# Altium integrated library Analog Devices RF IF Switches.IntLib: 52 symbols (part 1 of 3)
Pins are listed as number, name and electrical type; pins without a type are passive.

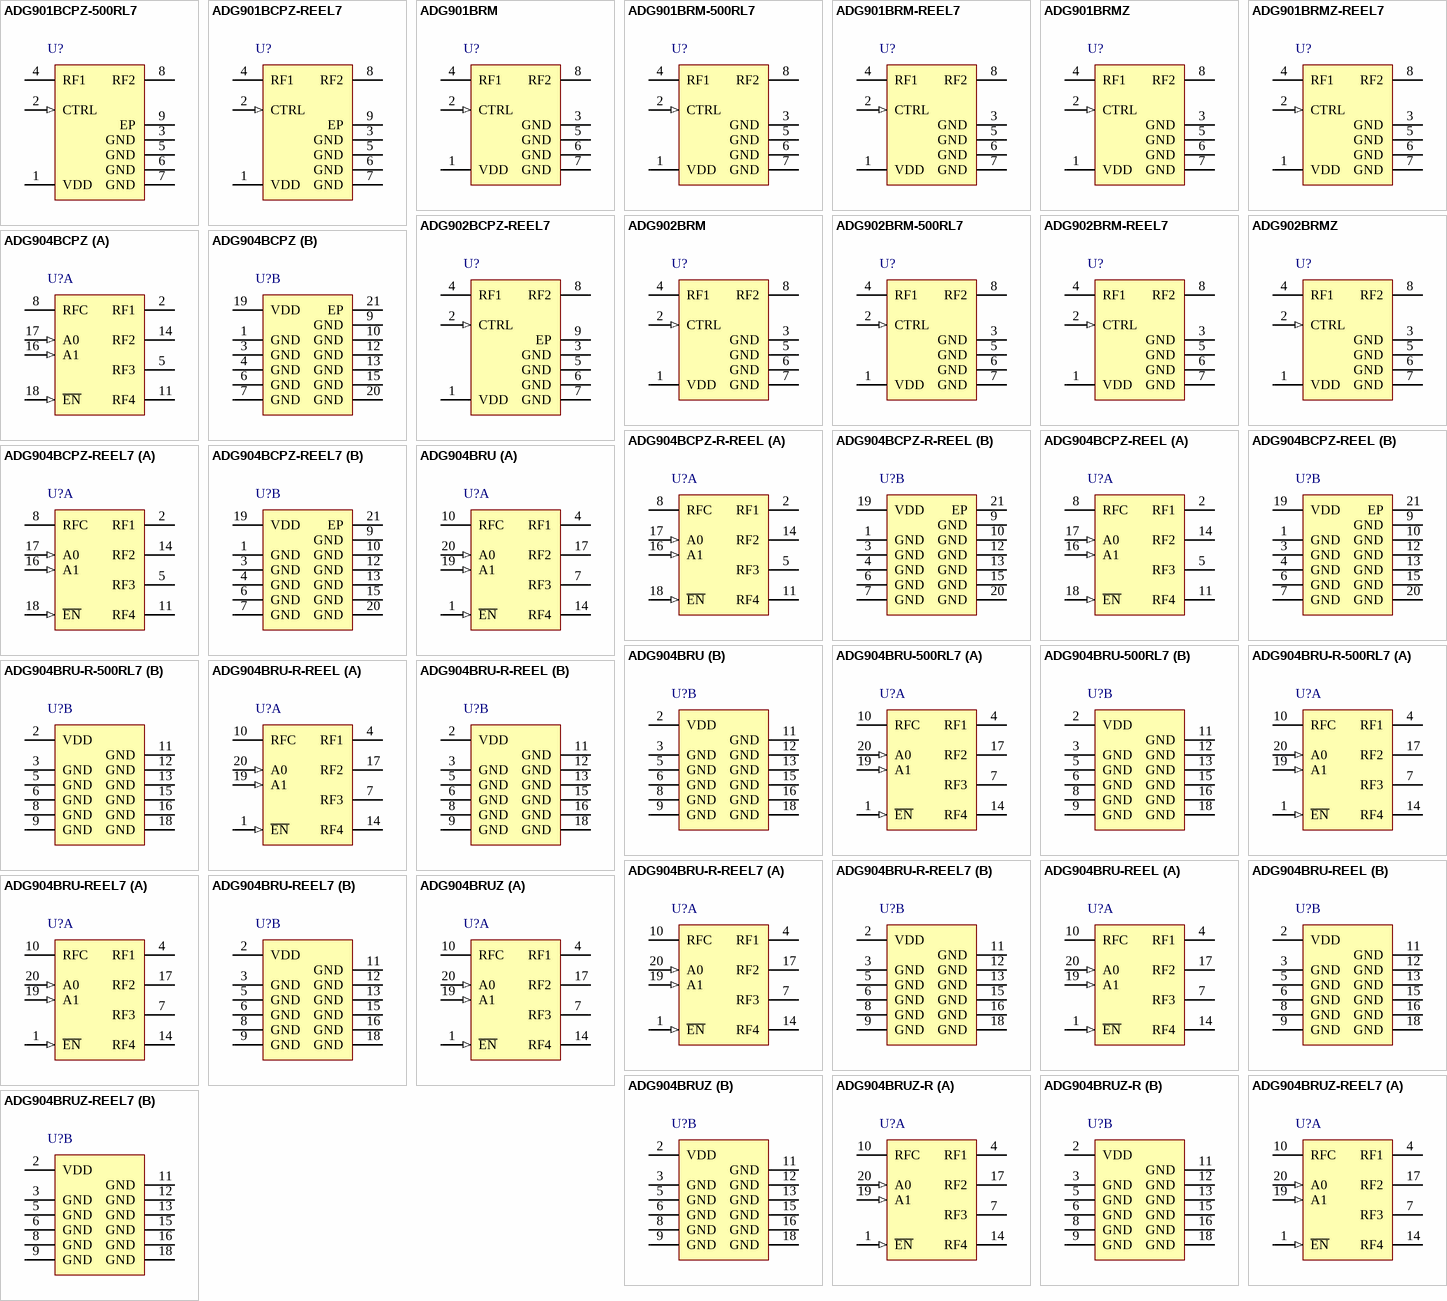
[diagram p0: symbols ADG901BCPZ-500RL7 to ADG904BRUZ-REEL7]

## ADG901BCPZ-500RL7
designator U?
RF Switch, Wideband, 40 dB Isolation at 1 GHz, CMOS 1.65 V to 2.75 V, SPST Switches, CP-8-2, Pb-Free, 500 Reel; Configuration: SPST/NO; # Sw Functions: 1; Supply Voltage: Single (+1.65V to +2.75V); Insertion Loss (dB): 800mdB; Bandwidth: 4.5GHz; P-1dB (dBm): 17; Off Isolation: 37dB; Off Isolation Test Freq: 1G; DatasheetVersion: RevB; PackageVersion: 061507-B; PackageReference: CP-8-2; PackageDescription: 8-Lead Lead Frame Chip Scale Package [LFCSP_VD]; ComponentLink1Description: Manufacturer URL; ComponentLink1URL: www.analog.com; ComponentLink2Description: Datasheet; ComponentLink2URL: http://www.analog.com/static/imported-files/data_sheets/ADG901_902.pdf; ComponentLink3Description: Package Specification; ComponentLink3URL: http://www.analog.com/static/imported-files/packages/56953322593982CP_8_2.pdf
footprint ADI-CP-8-2_N (SON, 8-Leads, Body 3x3mm, Pitch 0.5mm, Thermal Pad 1.75x1.45mm, IPC Medium Density)
footprint ADI-CP-8-2_L (SON, 8-Leads, Body 3x3mm, Pitch 0.5mm, Thermal Pad 1.75x1.45mm, IPC High Density)
footprint ADI-CP-8-2_M (SON, 8-Leads, Body 3x3mm, Pitch 0.5mm, Thermal Pad 1.75x1.45mm, IPC Low Density)
pins: 1 VDD (power) "Power Supply Input. These parts can be operated from 1.65 V to 2.75 V; VDD should be decoupled to GND.", 2 CTRL (in) "CMOS or LVTTL Logic Level.", 3 GND (power) "Ground Reference Point for All Circuitry on the Part.", 4 RF1 "RF1 Port.", 5 GND (power) "Ground Reference Point for All Circuitry on the Part.", 6 GND (power) "Ground Reference Point for All Circuitry on the Part.", 7 GND (power) "Ground Reference Point for All Circuitry on the Part.", 8 RF2 "RF2 Port.", 9 EP (power) "Exposed Pad."

## ADG901BCPZ-REEL7
designator U?
RF Switch, Wideband, 40 dB Isolation at 1 GHz, CMOS 1.65 V to 2.75 V, SPST Switches, CP-8-2, Pb-Free, 1500 Reel; Configuration: SPST/NO; # Sw Functions: 1; Supply Voltage: Single (+1.65V to +2.75V); Insertion Loss (dB): 800mdB; Bandwidth: 4.5GHz; P-1dB (dBm): 17; Off Isolation: 37dB; Off Isolation Test Freq: 1G; DatasheetVersion: RevB; PackageVersion: 061507-B; PackageReference: CP-8-2; PackageDescription: 8-Lead Lead Frame Chip Scale Package [LFCSP_VD]; ComponentLink1Description: Manufacturer URL; ComponentLink1URL: www.analog.com; ComponentLink2Description: Datasheet; ComponentLink2URL: http://www.analog.com/static/imported-files/data_sheets/ADG901_902.pdf; ComponentLink3Description: Package Specification; ComponentLink3URL: http://www.analog.com/static/imported-files/packages/56953322593982CP_8_2.pdf
footprint ADI-CP-8-2_N (SON, 8-Leads, Body 3x3mm, Pitch 0.5mm, Thermal Pad 1.75x1.45mm, IPC Medium Density)
footprint ADI-CP-8-2_L (SON, 8-Leads, Body 3x3mm, Pitch 0.5mm, Thermal Pad 1.75x1.45mm, IPC High Density)
footprint ADI-CP-8-2_M (SON, 8-Leads, Body 3x3mm, Pitch 0.5mm, Thermal Pad 1.75x1.45mm, IPC Low Density)
pins: 1 VDD (power) "Power Supply Input. These parts can be operated from 1.65 V to 2.75 V; VDD should be decoupled to GND.", 2 CTRL (in) "CMOS or LVTTL Logic Level.", 3 GND (power) "Ground Reference Point for All Circuitry on the Part.", 4 RF1 "RF1 Port.", 5 GND (power) "Ground Reference Point for All Circuitry on the Part.", 6 GND (power) "Ground Reference Point for All Circuitry on the Part.", 7 GND (power) "Ground Reference Point for All Circuitry on the Part.", 8 RF2 "RF2 Port.", 9 EP (power) "Exposed Pad."

## ADG901BRM
designator U?
RF Switch, Wideband, 40 dB Isolation at 1 GHz, CMOS 1.65 V to 2.75 V, SPST Switches, RM-8, 50 Tube; Configuration: SPST/NO; # Sw Functions: 1; Supply Voltage: Single (+1.65V to +2.75V); Insertion Loss (dB): 800mdB; Bandwidth: 4.5GHz; P-1dB (dBm): 17; Off Isolation: 37dB; Off Isolation Test Freq: 1G; DatasheetVersion: RevB; PackageVersion: Aug-2005; PackageReference: RM-8; PackageDescription: 8-Lead Mini Small Outline Package [MSOP]; Code_JEDEC: MO-187-AA; ComponentLink1Description: Manufacturer URL; ComponentLink1URL: www.analog.com; ComponentLink2Description: Datasheet; ComponentLink2URL: http://www.analog.com/static/imported-files/data_sheets/ADG901_902.pdf; ComponentLink3Description: Package Specification; ComponentLink3URL: http://www.analog.com/static/imported-files/packages/PKG_PDF/MSOP%28RM%29/RM_8.pdf
footprint ADI-RM-8_N (TSOP, 8-Leads, Body 3x3mm, Pitch 0.65mm, IPC Medium Density)
footprint ADI-RM-8_L (TSOP, 8-Leads, Body 3x3mm, Pitch 0.65mm, IPC High Density)
footprint ADI-RM-8_M (TSOP, 8-Leads, Body 3x3mm, Pitch 0.65mm, IPC Low Density)
pins: 1 VDD (power) "Power Supply Input. These parts can be operated from 1.65 V to 2.75 V; VDD should be decoupled to GND.", 2 CTRL (in) "CMOS or LVTTL Logic Level. CTRL input should not exceed VDD.", 3 GND (power) "Ground Reference Point for All Circuitry on the Part.", 4 RF1 "RF1 Port.", 5 GND (power) "Ground Reference Point for All Circuitry on the Part.", 6 GND (power) "Ground Reference Point for All Circuitry on the Part.", 7 GND (power) "Ground Reference Point for All Circuitry on the Part.", 8 RF2 "RF2 Port."

## ADG901BRM-500RL7
designator U?
RF Switch, Wideband, 40 dB Isolation at 1 GHz, CMOS 1.65 V to 2.75 V, SPST Switches, RM-8, 500 Reel; Configuration: SPST/NO; # Sw Functions: 1; Supply Voltage: Single (+1.65V to +2.75V); Insertion Loss (dB): 800mdB; Bandwidth: 4.5GHz; P-1dB (dBm): 17; Off Isolation: 37dB; Off Isolation Test Freq: 1G; DatasheetVersion: RevB; PackageVersion: Aug-2005; PackageReference: RM-8; PackageDescription: 8-Lead Mini Small Outline Package [MSOP]; Code_JEDEC: MO-187-AA; ComponentLink1Description: Manufacturer URL; ComponentLink1URL: www.analog.com; ComponentLink2Description: Datasheet; ComponentLink2URL: http://www.analog.com/static/imported-files/data_sheets/ADG901_902.pdf; ComponentLink3Description: Package Specification; ComponentLink3URL: http://www.analog.com/static/imported-files/packages/PKG_PDF/MSOP%28RM%29/RM_8.pdf
footprint ADI-RM-8_N (TSOP, 8-Leads, Body 3x3mm, Pitch 0.65mm, IPC Medium Density)
footprint ADI-RM-8_L (TSOP, 8-Leads, Body 3x3mm, Pitch 0.65mm, IPC High Density)
footprint ADI-RM-8_M (TSOP, 8-Leads, Body 3x3mm, Pitch 0.65mm, IPC Low Density)
pins: 1 VDD (power) "Power Supply Input. These parts can be operated from 1.65 V to 2.75 V; VDD should be decoupled to GND.", 2 CTRL (in) "CMOS or LVTTL Logic Level. CTRL input should not exceed VDD.", 3 GND (power) "Ground Reference Point for All Circuitry on the Part.", 4 RF1 "RF1 Port.", 5 GND (power) "Ground Reference Point for All Circuitry on the Part.", 6 GND (power) "Ground Reference Point for All Circuitry on the Part.", 7 GND (power) "Ground Reference Point for All Circuitry on the Part.", 8 RF2 "RF2 Port."

## ADG901BRM-REEL7
designator U?
RF Switch, Wideband, 40 dB Isolation at 1 GHz, CMOS 1.65 V to 2.75 V, SPST Switches, RM-8, 1000 Reel; Configuration: SPST/NO; # Sw Functions: 1; Supply Voltage: Single (+1.65V to +2.75V); Insertion Loss (dB): 800mdB; Bandwidth: 4.5GHz; P-1dB (dBm): 17; Off Isolation: 37dB; Off Isolation Test Freq: 1G; DatasheetVersion: RevB; PackageVersion: Aug-2005; PackageReference: RM-8; PackageDescription: 8-Lead Mini Small Outline Package [MSOP]; Code_JEDEC: MO-187-AA; ComponentLink1Description: Manufacturer URL; ComponentLink1URL: www.analog.com; ComponentLink2Description: Datasheet; ComponentLink2URL: http://www.analog.com/static/imported-files/data_sheets/ADG901_902.pdf; ComponentLink3Description: Package Specification; ComponentLink3URL: http://www.analog.com/static/imported-files/packages/PKG_PDF/MSOP%28RM%29/RM_8.pdf
footprint ADI-RM-8_N (TSOP, 8-Leads, Body 3x3mm, Pitch 0.65mm, IPC Medium Density)
footprint ADI-RM-8_L (TSOP, 8-Leads, Body 3x3mm, Pitch 0.65mm, IPC High Density)
footprint ADI-RM-8_M (TSOP, 8-Leads, Body 3x3mm, Pitch 0.65mm, IPC Low Density)
pins: 1 VDD (power) "Power Supply Input. These parts can be operated from 1.65 V to 2.75 V; VDD should be decoupled to GND.", 2 CTRL (in) "CMOS or LVTTL Logic Level. CTRL input should not exceed VDD.", 3 GND (power) "Ground Reference Point for All Circuitry on the Part.", 4 RF1 "RF1 Port.", 5 GND (power) "Ground Reference Point for All Circuitry on the Part.", 6 GND (power) "Ground Reference Point for All Circuitry on the Part.", 7 GND (power) "Ground Reference Point for All Circuitry on the Part.", 8 RF2 "RF2 Port."

## ADG901BRMZ
designator U?
RF Switch, Wideband, 40 dB Isolation at 1 GHz, CMOS 1.65 V to 2.75 V, SPST Switches, RM-8, Pb-Free, 50 Tube; Configuration: SPST/NO; # Sw Functions: 1; Supply Voltage: Single (+1.65V to +2.75V); Insertion Loss (dB): 800mdB; Bandwidth: 4.5GHz; P-1dB (dBm): 17; Off Isolation: 37dB; Off Isolation Test Freq: 1G; DatasheetVersion: RevB; PackageVersion: Aug-2005; PackageReference: RM-8; PackageDescription: 8-Lead Mini Small Outline Package [MSOP]; Code_JEDEC: MO-187-AA; ComponentLink1Description: Manufacturer URL; ComponentLink1URL: www.analog.com; ComponentLink2Description: Datasheet; ComponentLink2URL: http://www.analog.com/static/imported-files/data_sheets/ADG901_902.pdf; ComponentLink3Description: Package Specification; ComponentLink3URL: http://www.analog.com/static/imported-files/packages/PKG_PDF/MSOP%28RM%29/RM_8.pdf
footprint ADI-RM-8_N (TSOP, 8-Leads, Body 3x3mm, Pitch 0.65mm, IPC Medium Density)
footprint ADI-RM-8_L (TSOP, 8-Leads, Body 3x3mm, Pitch 0.65mm, IPC High Density)
footprint ADI-RM-8_M (TSOP, 8-Leads, Body 3x3mm, Pitch 0.65mm, IPC Low Density)
pins: 1 VDD (power) "Power Supply Input. These parts can be operated from 1.65 V to 2.75 V; VDD should be decoupled to GND.", 2 CTRL (in) "CMOS or LVTTL Logic Level. CTRL input should not exceed VDD.", 3 GND (power) "Ground Reference Point for All Circuitry on the Part.", 4 RF1 "RF1 Port.", 5 GND (power) "Ground Reference Point for All Circuitry on the Part.", 6 GND (power) "Ground Reference Point for All Circuitry on the Part.", 7 GND (power) "Ground Reference Point for All Circuitry on the Part.", 8 RF2 "RF2 Port."

## ADG901BRMZ-REEL7
designator U?
RF Switch, Wideband, 40 dB Isolation at 1 GHz, CMOS 1.65 V to 2.75 V, SPST Switches, RM-8, Pb-Free, 1000 Reel; Configuration: SPST/NO; # Sw Functions: 1; Supply Voltage: Single (+1.65V to +2.75V); Insertion Loss (dB): 800mdB; Bandwidth: 4.5GHz; P-1dB (dBm): 17; Off Isolation: 37dB; Off Isolation Test Freq: 1G; DatasheetVersion: RevB; PackageVersion: Aug-2005; PackageReference: RM-8; PackageDescription: 8-Lead Mini Small Outline Package [MSOP]; Code_JEDEC: MO-187-AA; ComponentLink1Description: Manufacturer URL; ComponentLink1URL: www.analog.com; ComponentLink2Description: Datasheet; ComponentLink2URL: http://www.analog.com/static/imported-files/data_sheets/ADG901_902.pdf; ComponentLink3Description: Package Specification; ComponentLink3URL: http://www.analog.com/static/imported-files/packages/PKG_PDF/MSOP%28RM%29/RM_8.pdf
footprint ADI-RM-8_N (TSOP, 8-Leads, Body 3x3mm, Pitch 0.65mm, IPC Medium Density)
footprint ADI-RM-8_L (TSOP, 8-Leads, Body 3x3mm, Pitch 0.65mm, IPC High Density)
footprint ADI-RM-8_M (TSOP, 8-Leads, Body 3x3mm, Pitch 0.65mm, IPC Low Density)
pins: 1 VDD (power) "Power Supply Input. These parts can be operated from 1.65 V to 2.75 V; VDD should be decoupled to GND.", 2 CTRL (in) "CMOS or LVTTL Logic Level. CTRL input should not exceed VDD.", 3 GND (power) "Ground Reference Point for All Circuitry on the Part.", 4 RF1 "RF1 Port.", 5 GND (power) "Ground Reference Point for All Circuitry on the Part.", 6 GND (power) "Ground Reference Point for All Circuitry on the Part.", 7 GND (power) "Ground Reference Point for All Circuitry on the Part.", 8 RF2 "RF2 Port."

## ADG902BCPZ-REEL7
designator U?
RF Switch, Wideband, 40 dB Isolation at 1 GHz, CMOS 1.65 V to 2.75 V, SPST Switches, CP-8-2, Pb-Free, 1500 Reel; Configuration: SPST/NO; # Sw Functions: 1; Supply Voltage: Single (+1.65V to +2.75V); Insertion Loss (dB): 800mdB; Bandwidth: 4.5GHz; P-1dB (dBm): 17; Off Isolation: 37dB; Off Isolation Test Freq: 1G; DatasheetVersion: RevB; PackageVersion: 061507-B; PackageReference: CP-8-2; PackageDescription: 8-Lead Lead Frame Chip Scale Package [LFCSP_VD]; ComponentLink1Description: Manufacturer URL; ComponentLink1URL: www.analog.com; ComponentLink2Description: Datasheet; ComponentLink2URL: http://www.analog.com/static/imported-files/data_sheets/ADG901_902.pdf; ComponentLink3Description: Package Specification; ComponentLink3URL: http://www.analog.com/static/imported-files/packages/56953322593982CP_8_2.pdf
footprint ADI-CP-8-2_N (SON, 8-Leads, Body 3x3mm, Pitch 0.5mm, Thermal Pad 1.75x1.45mm, IPC Medium Density)
footprint ADI-CP-8-2_L (SON, 8-Leads, Body 3x3mm, Pitch 0.5mm, Thermal Pad 1.75x1.45mm, IPC High Density)
footprint ADI-CP-8-2_M (SON, 8-Leads, Body 3x3mm, Pitch 0.5mm, Thermal Pad 1.75x1.45mm, IPC Low Density)
pins: 1 VDD (power) "Power Supply Input. These parts can be operated from 1.65 V to 2.75 V; VDD should be decoupled to GND.", 2 CTRL (in) "CMOS or LVTTL Logic Level. CTRL input should not exceed VDD.", 3 GND (power) "Ground Reference Point for All Circuitry on the Part.", 4 RF1 "RF1 Port.", 5 GND (power) "Ground Reference Point for All Circuitry on the Part.", 6 GND (power) "Ground Reference Point for All Circuitry on the Part.", 7 GND (power) "Ground Reference Point for All Circuitry on the Part.", 8 RF2 "RF2 Port.", 9 EP (power) "Exposed Pad."

## ADG902BRM
designator U?
RF Switch, Wideband, 40 dB Isolation at 1 GHz, CMOS 1.65 V to 2.75 V, SPST Switches, RM-8, 50 Tube; Configuration: SPST/NO; # Sw Functions: 1; Supply Voltage: Single (+1.65V to +2.75V); Insertion Loss (dB): 800mdB; Bandwidth: 4.5GHz; P-1dB (dBm): 17; Off Isolation: 37dB; Off Isolation Test Freq: 1G; DatasheetVersion: RevB; PackageVersion: Aug-2005; PackageReference: RM-8; PackageDescription: 8-Lead Mini Small Outline Package [MSOP]; Code_JEDEC: MO-187-AA; ComponentLink1Description: Manufacturer URL; ComponentLink1URL: www.analog.com; ComponentLink2Description: Datasheet; ComponentLink2URL: http://www.analog.com/static/imported-files/data_sheets/ADG901_902.pdf; ComponentLink3Description: Package Specification; ComponentLink3URL: http://www.analog.com/static/imported-files/packages/PKG_PDF/MSOP%28RM%29/RM_8.pdf
footprint ADI-RM-8_N (TSOP, 8-Leads, Body 3x3mm, Pitch 0.65mm, IPC Medium Density)
footprint ADI-RM-8_L (TSOP, 8-Leads, Body 3x3mm, Pitch 0.65mm, IPC High Density)
footprint ADI-RM-8_M (TSOP, 8-Leads, Body 3x3mm, Pitch 0.65mm, IPC Low Density)
pins: 1 VDD (power) "Power Supply Input. These parts can be operated from 1.65 V to 2.75 V; VDD should be decoupled to GND.", 2 CTRL (in) "CMOS or LVTTL Logic Level. CTRL input should not exceed VDD.", 3 GND (power) "Ground Reference Point for All Circuitry on the Part.", 4 RF1 "RF1 Port.", 5 GND (power) "Ground Reference Point for All Circuitry on the Part.", 6 GND (power) "Ground Reference Point for All Circuitry on the Part.", 7 GND (power) "Ground Reference Point for All Circuitry on the Part.", 8 RF2 "RF2 Port."

## ADG902BRM-500RL7
designator U?
RF Switch, Wideband, 40 dB Isolation at 1 GHz, CMOS 1.65 V to 2.75 V, SPST Switches, RM-8, 500 Reel; Configuration: SPST/NO; # Sw Functions: 1; Supply Voltage: Single (+1.65V to +2.75V); Insertion Loss (dB): 800mdB; Bandwidth: 4.5GHz; P-1dB (dBm): 17; Off Isolation: 37dB; Off Isolation Test Freq: 1G; DatasheetVersion: RevB; PackageVersion: Aug-2005; PackageReference: RM-8; PackageDescription: 8-Lead Mini Small Outline Package [MSOP]; Code_JEDEC: MO-187-AA; ComponentLink1Description: Manufacturer URL; ComponentLink1URL: www.analog.com; ComponentLink2Description: Datasheet; ComponentLink2URL: http://www.analog.com/static/imported-files/data_sheets/ADG901_902.pdf; ComponentLink3Description: Package Specification; ComponentLink3URL: http://www.analog.com/static/imported-files/packages/PKG_PDF/MSOP%28RM%29/RM_8.pdf
footprint ADI-RM-8_N (TSOP, 8-Leads, Body 3x3mm, Pitch 0.65mm, IPC Medium Density)
footprint ADI-RM-8_L (TSOP, 8-Leads, Body 3x3mm, Pitch 0.65mm, IPC High Density)
footprint ADI-RM-8_M (TSOP, 8-Leads, Body 3x3mm, Pitch 0.65mm, IPC Low Density)
pins: 1 VDD (power) "Power Supply Input. These parts can be operated from 1.65 V to 2.75 V; VDD should be decoupled to GND.", 2 CTRL (in) "CMOS or LVTTL Logic Level. CTRL input should not exceed VDD.", 3 GND (power) "Ground Reference Point for All Circuitry on the Part.", 4 RF1 "RF1 Port.", 5 GND (power) "Ground Reference Point for All Circuitry on the Part.", 6 GND (power) "Ground Reference Point for All Circuitry on the Part.", 7 GND (power) "Ground Reference Point for All Circuitry on the Part.", 8 RF2 "RF2 Port."

## ADG902BRM-REEL7
designator U?
RF Switch, Wideband, 40 dB Isolation at 1 GHz, CMOS 1.65 V to 2.75 V, SPST Switches, RM-8, 1000 Reel; Configuration: SPST/NO; # Sw Functions: 1; Supply Voltage: Single (+1.65V to +2.75V); Insertion Loss (dB): 800mdB; Bandwidth: 4.5GHz; P-1dB (dBm): 17; Off Isolation: 37dB; Off Isolation Test Freq: 1G; DatasheetVersion: RevB; PackageVersion: Aug-2005; PackageReference: RM-8; PackageDescription: 8-Lead Mini Small Outline Package [MSOP]; Code_JEDEC: MO-187-AA; ComponentLink1Description: Manufacturer URL; ComponentLink1URL: www.analog.com; ComponentLink2Description: Datasheet; ComponentLink2URL: http://www.analog.com/static/imported-files/data_sheets/ADG901_902.pdf; ComponentLink3Description: Package Specification; ComponentLink3URL: http://www.analog.com/static/imported-files/packages/PKG_PDF/MSOP%28RM%29/RM_8.pdf
footprint ADI-RM-8_N (TSOP, 8-Leads, Body 3x3mm, Pitch 0.65mm, IPC Medium Density)
footprint ADI-RM-8_L (TSOP, 8-Leads, Body 3x3mm, Pitch 0.65mm, IPC High Density)
footprint ADI-RM-8_M (TSOP, 8-Leads, Body 3x3mm, Pitch 0.65mm, IPC Low Density)
pins: 1 VDD (power) "Power Supply Input. These parts can be operated from 1.65 V to 2.75 V; VDD should be decoupled to GND.", 2 CTRL (in) "CMOS or LVTTL Logic Level. CTRL input should not exceed VDD.", 3 GND (power) "Ground Reference Point for All Circuitry on the Part.", 4 RF1 "RF1 Port.", 5 GND (power) "Ground Reference Point for All Circuitry on the Part.", 6 GND (power) "Ground Reference Point for All Circuitry on the Part.", 7 GND (power) "Ground Reference Point for All Circuitry on the Part.", 8 RF2 "RF2 Port."

## ADG902BRMZ
designator U?
RF Switch, Wideband, 40 dB Isolation at 1 GHz, CMOS 1.65 V to 2.75 V, SPST Switches, RM-8, Pb-Free, 50 Tube; Configuration: SPST/NO; # Sw Functions: 1; Supply Voltage: Single (+1.65V to +2.75V); Insertion Loss (dB): 800mdB; Bandwidth: 4.5GHz; P-1dB (dBm): 17; Off Isolation: 37dB; Off Isolation Test Freq: 1G; DatasheetVersion: RevB; PackageVersion: Aug-2005; PackageReference: RM-8; PackageDescription: 8-Lead Mini Small Outline Package [MSOP]; Code_JEDEC: MO-187-AA; ComponentLink1Description: Manufacturer URL; ComponentLink1URL: www.analog.com; ComponentLink2Description: Datasheet; ComponentLink2URL: http://www.analog.com/static/imported-files/data_sheets/ADG901_902.pdf; ComponentLink3Description: Package Specification; ComponentLink3URL: http://www.analog.com/static/imported-files/packages/PKG_PDF/MSOP%28RM%29/RM_8.pdf
footprint ADI-RM-8_N (TSOP, 8-Leads, Body 3x3mm, Pitch 0.65mm, IPC Medium Density)
footprint ADI-RM-8_L (TSOP, 8-Leads, Body 3x3mm, Pitch 0.65mm, IPC High Density)
footprint ADI-RM-8_M (TSOP, 8-Leads, Body 3x3mm, Pitch 0.65mm, IPC Low Density)
pins: 1 VDD (power) "Power Supply Input. These parts can be operated from 1.65 V to 2.75 V; VDD should be decoupled to GND.", 2 CTRL (in) "CMOS or LVTTL Logic Level. CTRL input should not exceed VDD.", 3 GND (power) "Ground Reference Point for All Circuitry on the Part.", 4 RF1 "RF1 Port.", 5 GND (power) "Ground Reference Point for All Circuitry on the Part.", 6 GND (power) "Ground Reference Point for All Circuitry on the Part.", 7 GND (power) "Ground Reference Point for All Circuitry on the Part.", 8 RF2 "RF2 Port."

## ADG904BCPZ
designator U?
RF Switch, Wideband 2.5 GHz, 37 dB Isolation at 1 GHz, CMOS 1.65 V to 2.75 V, 4:1 Mux/SP4T, CP-20-1, Pb-Free, 490 Tray; Configuration: 4; Supply Voltage: Single (+1.65V to +2.75V); Insertion Loss (dB): 400mdB; Bandwidth: 2.5GHz; P-1dB (dBm): 16; Off Isolation: 60dB; Off Isolation Test Freq: 100M; DatasheetVersion: RevB; PackageVersion: 012508-B; PackageReference: CP-20-1; PackageDescription: 20-Lead Lead Frame Chip Scale Package [LFCSP_VQ]; # Sw Functions: 4; Code_JEDEC: MO-220-VGGD-1; ComponentLink1Description: Manufacturer URL; ComponentLink1URL: www.analog.com; ComponentLink2Description: Datasheet; ComponentLink2URL: http://www.analog.com/static/imported-files/data_sheets/ADG904_904R.pdf; ComponentLink3Description: Package Specification; ComponentLink3URL: http://www.analog.com/static/imported-files/packages/PKG_PDF/LFCSP(CP)/CP_20_1.pdf
footprint ADI-CP-20-1_N (QFN, 20-Leads, Body 4x4mm, Pitch 0.5mm, Thermal Pad 2.2x2.2mm, IPC Medium Density)
footprint ADI-CP-20-1_L (QFN, 20-Leads, Body 4x4mm, Pitch 0.5mm, Thermal Pad 2.2x2.2mm, IPC High Density)
footprint ADI-CP-20-1_M (QFN, 20-Leads, Body 4x4mm, Pitch 0.5mm, Thermal Pad 2.2x2.2mm, IPC Low Density)
part A pins: 2 RF1 "RF1 Port.", 5 RF3 "RF3 Port.", 8 RFC "Common RF Port for Switch.", 11 RF4 "RF4 Port.", 14 RF2 "RF2 Port.", 16 A1 (in) "Logic Control Input.", 17 A0 (in) "Logic Control Input.", 18 ~{EN} (in) "Active Low Digital Input. When high, the device is disabled and all switches are off. When low, Ax logic inputs determine On switches."
part B pins: 1 GND (power) "Ground Reference Point for All Circuitry on the Part.", 3 GND (power) "Ground Reference Point for All Circuitry on the Part.", 4 GND (power) "Ground Reference Point for All Circuitry on the Part.", 6 GND (power) "Ground Reference Point for All Circuitry on the Part.", 7 GND (power) "Ground Reference Point for All Circuitry on the Part.", 9 GND (power) "Ground Reference Point for All Circuitry on the Part.", 10 GND (power) "Ground Reference Point for All Circuitry on the Part.", 12 GND (power) "Ground Reference Point for All Circuitry on the Part.", 13 GND (power) "Ground Reference Point for All Circuitry on the Part.", 15 GND (power) "Ground Reference Point for All Circuitry on the Part.", 19 VDD (power) "Power Supply Input. These parts can be operated from 1.65 V to 2.75 V. VDD should be decoupled to GND.", 20 GND (power) "Ground Reference Point for All Circuitry on the Part.", 21 EP (power) "Exposed Pad."

## ADG904BCPZ-R-REEL
designator U?
RF Switch, Wideband 2.5 GHz, 37 dB Isolation at 1 GHz, CMOS 1.65 V to 2.75 V, 4:1 Mux/SP4T, CP-20-1, Pb-Free, 5000 Reel; Configuration: 4; Supply Voltage: Single (+1.65V to +2.75V); Insertion Loss (dB): 400mdB; Bandwidth: 2.5GHz; P-1dB (dBm): 16; Off Isolation: 60dB; Off Isolation Test Freq: 100M; DatasheetVersion: RevB; PackageVersion: 012508-B; PackageReference: CP-20-1; PackageDescription: 20-Lead Lead Frame Chip Scale Package [LFCSP_VQ]; # Sw Functions: 4; Code_JEDEC: MO-220-VGGD-1; ComponentLink1Description: Manufacturer URL; ComponentLink1URL: www.analog.com; ComponentLink2Description: Datasheet; ComponentLink2URL: http://www.analog.com/static/imported-files/data_sheets/ADG904_904R.pdf; ComponentLink3Description: Package Specification; ComponentLink3URL: http://www.analog.com/static/imported-files/packages/PKG_PDF/LFCSP(CP)/CP_20_1.pdf
footprint ADI-CP-20-1_N (QFN, 20-Leads, Body 4x4mm, Pitch 0.5mm, Thermal Pad 2.2x2.2mm, IPC Medium Density)
footprint ADI-CP-20-1_L (QFN, 20-Leads, Body 4x4mm, Pitch 0.5mm, Thermal Pad 2.2x2.2mm, IPC High Density)
footprint ADI-CP-20-1_M (QFN, 20-Leads, Body 4x4mm, Pitch 0.5mm, Thermal Pad 2.2x2.2mm, IPC Low Density)
part A pins: 2 RF1 "RF1 Port.", 5 RF3 "RF3 Port.", 8 RFC "Common RF Port for Switch.", 11 RF4 "RF4 Port.", 14 RF2 "RF2 Port.", 16 A1 (in) "Logic Control Input.", 17 A0 (in) "Logic Control Input.", 18 ~{EN} (in) "Active Low Digital Input. When high, the device is disabled and all switches are off. When low, Ax logic inputs determine On switches."
part B pins: 1 GND (power) "Ground Reference Point for All Circuitry on the Part.", 3 GND (power) "Ground Reference Point for All Circuitry on the Part.", 4 GND (power) "Ground Reference Point for All Circuitry on the Part.", 6 GND (power) "Ground Reference Point for All Circuitry on the Part.", 7 GND (power) "Ground Reference Point for All Circuitry on the Part.", 9 GND (power) "Ground Reference Point for All Circuitry on the Part.", 10 GND (power) "Ground Reference Point for All Circuitry on the Part.", 12 GND (power) "Ground Reference Point for All Circuitry on the Part.", 13 GND (power) "Ground Reference Point for All Circuitry on the Part.", 15 GND (power) "Ground Reference Point for All Circuitry on the Part.", 19 VDD (power) "Power Supply Input. These parts can be operated from 1.65 V to 2.75 V. VDD should be decoupled to GND.", 20 GND (power) "Ground Reference Point for All Circuitry on the Part.", 21 EP (power) "Exposed Pad."

## ADG904BCPZ-REEL
designator U?
RF Switch, Wideband 2.5 GHz, 37 dB Isolation at 1 GHz, CMOS 1.65 V to 2.75 V, 4:1 Mux/SP4T, CP-20-1, Pb-Free, 5000 Reel; Configuration: 4; Supply Voltage: Single (+1.65V to +2.75V); Insertion Loss (dB): 400mdB; Bandwidth: 2.5GHz; P-1dB (dBm): 16; Off Isolation: 60dB; Off Isolation Test Freq: 100M; DatasheetVersion: RevB; PackageVersion: 012508-B; PackageReference: CP-20-1; PackageDescription: 20-Lead Lead Frame Chip Scale Package [LFCSP_VQ]; # Sw Functions: 4; Code_JEDEC: MO-220-VGGD-1; ComponentLink1Description: Manufacturer URL; ComponentLink1URL: www.analog.com; ComponentLink2Description: Datasheet; ComponentLink2URL: http://www.analog.com/static/imported-files/data_sheets/ADG904_904R.pdf; ComponentLink3Description: Package Specification; ComponentLink3URL: http://www.analog.com/static/imported-files/packages/PKG_PDF/LFCSP(CP)/CP_20_1.pdf
footprint ADI-CP-20-1_N (QFN, 20-Leads, Body 4x4mm, Pitch 0.5mm, Thermal Pad 2.2x2.2mm, IPC Medium Density)
footprint ADI-CP-20-1_L (QFN, 20-Leads, Body 4x4mm, Pitch 0.5mm, Thermal Pad 2.2x2.2mm, IPC High Density)
footprint ADI-CP-20-1_M (QFN, 20-Leads, Body 4x4mm, Pitch 0.5mm, Thermal Pad 2.2x2.2mm, IPC Low Density)
part A pins: 2 RF1 "RF1 Port.", 5 RF3 "RF3 Port.", 8 RFC "Common RF Port for Switch.", 11 RF4 "RF4 Port.", 14 RF2 "RF2 Port.", 16 A1 (in) "Logic Control Input.", 17 A0 (in) "Logic Control Input.", 18 ~{EN} (in) "Active Low Digital Input. When high, the device is disabled and all switches are off. When low, Ax logic inputs determine On switches."
part B pins: 1 GND (power) "Ground Reference Point for All Circuitry on the Part.", 3 GND (power) "Ground Reference Point for All Circuitry on the Part.", 4 GND (power) "Ground Reference Point for All Circuitry on the Part.", 6 GND (power) "Ground Reference Point for All Circuitry on the Part.", 7 GND (power) "Ground Reference Point for All Circuitry on the Part.", 9 GND (power) "Ground Reference Point for All Circuitry on the Part.", 10 GND (power) "Ground Reference Point for All Circuitry on the Part.", 12 GND (power) "Ground Reference Point for All Circuitry on the Part.", 13 GND (power) "Ground Reference Point for All Circuitry on the Part.", 15 GND (power) "Ground Reference Point for All Circuitry on the Part.", 19 VDD (power) "Power Supply Input. These parts can be operated from 1.65 V to 2.75 V. VDD should be decoupled to GND.", 20 GND (power) "Ground Reference Point for All Circuitry on the Part.", 21 EP (power) "Exposed Pad."

## ADG904BCPZ-REEL7
designator U?
RF Switch, Wideband 2.5 GHz, 37 dB Isolation at 1 GHz, CMOS 1.65 V to 2.75 V, 4:1 Mux/SP4T, CP-20-1, Pb-Free, 1500 Reel; Configuration: 4; Supply Voltage: Single (+1.65V to +2.75V); Insertion Loss (dB): 400mdB; Bandwidth: 2.5GHz; P-1dB (dBm): 16; Off Isolation: 60dB; Off Isolation Test Freq: 100M; DatasheetVersion: RevB; PackageVersion: 012508-B; PackageReference: CP-20-1; PackageDescription: 20-Lead Lead Frame Chip Scale Package [LFCSP_VQ]; # Sw Functions: 4; Code_JEDEC: MO-220-VGGD-1; ComponentLink1Description: Manufacturer URL; ComponentLink1URL: www.analog.com; ComponentLink2Description: Datasheet; ComponentLink2URL: http://www.analog.com/static/imported-files/data_sheets/ADG904_904R.pdf; ComponentLink3Description: Package Specification; ComponentLink3URL: http://www.analog.com/static/imported-files/packages/PKG_PDF/LFCSP(CP)/CP_20_1.pdf
footprint ADI-CP-20-1_N (QFN, 20-Leads, Body 4x4mm, Pitch 0.5mm, Thermal Pad 2.2x2.2mm, IPC Medium Density)
footprint ADI-CP-20-1_L (QFN, 20-Leads, Body 4x4mm, Pitch 0.5mm, Thermal Pad 2.2x2.2mm, IPC High Density)
footprint ADI-CP-20-1_M (QFN, 20-Leads, Body 4x4mm, Pitch 0.5mm, Thermal Pad 2.2x2.2mm, IPC Low Density)
part A pins: 2 RF1 "RF1 Port.", 5 RF3 "RF3 Port.", 8 RFC "Common RF Port for Switch.", 11 RF4 "RF4 Port.", 14 RF2 "RF2 Port.", 16 A1 (in) "Logic Control Input.", 17 A0 (in) "Logic Control Input.", 18 ~{EN} (in) "Active Low Digital Input. When high, the device is disabled and all switches are off. When low, Ax logic inputs determine On switches."
part B pins: 1 GND (power) "Ground Reference Point for All Circuitry on the Part.", 3 GND (power) "Ground Reference Point for All Circuitry on the Part.", 4 GND (power) "Ground Reference Point for All Circuitry on the Part.", 6 GND (power) "Ground Reference Point for All Circuitry on the Part.", 7 GND (power) "Ground Reference Point for All Circuitry on the Part.", 9 GND (power) "Ground Reference Point for All Circuitry on the Part.", 10 GND (power) "Ground Reference Point for All Circuitry on the Part.", 12 GND (power) "Ground Reference Point for All Circuitry on the Part.", 13 GND (power) "Ground Reference Point for All Circuitry on the Part.", 15 GND (power) "Ground Reference Point for All Circuitry on the Part.", 19 VDD (power) "Power Supply Input. These parts can be operated from 1.65 V to 2.75 V. VDD should be decoupled to GND.", 20 GND (power) "Ground Reference Point for All Circuitry on the Part.", 21 EP (power) "Exposed Pad."

## ADG904BRU
designator U?
RF Switch, Wideband 2.5 GHz, 37 dB Isolation at 1 GHz, CMOS 1.65 V to 2.75 V, 4:1 Mux/SP4T, RU-20, 75 Tube; Configuration: 4; Supply Voltage: Single (+1.65V to +2.75V); Insertion Loss (dB): 400mdB; Bandwidth: 2.5GHz; P-1dB (dBm): 16; Off Isolation: 60dB; Off Isolation Test Freq: 100M; DatasheetVersion: RevB; PackageVersion: 2000; PackageReference: RU-20; PackageDescription: 20-Lead Thin Shrink Small Outline Package [TSSOP]; # Sw Functions: 4; Code_JEDEC: MO-153AC; ComponentLink1Description: Manufacturer URL; ComponentLink1URL: www.analog.com; ComponentLink2Description: Datasheet; ComponentLink2URL: http://www.analog.com/static/imported-files/data_sheets/ADG904_904R.pdf; ComponentLink3Description: Package Specification; ComponentLink3URL: http://www.analog.com/static/imported-files/packages/364515793657813558433715854054607941441RU20.pdf
footprint ADI-RU-20_N (TSOP, 20-Leads, Body 6.5x4.4mm, Pitch 0.65mm, IPC Medium Density)
footprint ADI-RU-20_L (TSOP, 20-Leads, Body 6.5x4.4mm, Pitch 0.65mm, IPC High Density)
footprint ADI-RU-20_M (TSOP, 20-Leads, Body 6.5x4.4mm, Pitch 0.65mm, IPC Low Density)
part A pins: 1 ~{EN} (in) "Active Low Digital Input. When high, the device is disabled and all switches are off. When low, Ax logic inputs determine On switches.", 4 RF1 "RF1 Port.", 7 RF3 "RF3 Port.", 10 RFC "Common RF Port for Switch.", 14 RF4 "RF4 Port.", 17 RF2 "RF2 Port.", 19 A1 (in) "Logic Control Input.", 20 A0 (in) "Logic Control Input."
part B pins: 2 VDD (power) "Power Supply Input. These parts can be operated from 1.65 V to 2.75 V. VDD should be decoupled to GND.", 3 GND (power) "Ground Reference Point for All Circuitry on the Part.", 5 GND (power) "Ground Reference Point for All Circuitry on the Part.", 6 GND (power) "Ground Reference Point for All Circuitry on the Part.", 8 GND (power) "Ground Reference Point for All Circuitry on the Part.", 9 GND (power) "Ground Reference Point for All Circuitry on the Part.", 11 GND (power) "Ground Reference Point for All Circuitry on the Part.", 12 GND (power) "Ground Reference Point for All Circuitry on the Part.", 13 GND (power) "Ground Reference Point for All Circuitry on the Part.", 15 GND (power) "Ground Reference Point for All Circuitry on the Part.", 16 GND (power) "Ground Reference Point for All Circuitry on the Part.", 18 GND (power) "Ground Reference Point for All Circuitry on the Part."

## ADG904BRU-500RL7
designator U?
RF Switch, Wideband 2.5 GHz, 37 dB Isolation at 1 GHz, CMOS 1.65 V to 2.75 V, 4:1 Mux/SP4T, RU-20, 500 Reel; Configuration: 4; Supply Voltage: Single (+1.65V to +2.75V); Insertion Loss (dB): 400mdB; Bandwidth: 2.5GHz; P-1dB (dBm): 16; Off Isolation: 60dB; Off Isolation Test Freq: 100M; DatasheetVersion: RevB; PackageVersion: 2000; PackageReference: RU-20; PackageDescription: 20-Lead Thin Shrink Small Outline Package [TSSOP]; # Sw Functions: 4; Code_JEDEC: MO-153AC; ComponentLink1Description: Manufacturer URL; ComponentLink1URL: www.analog.com; ComponentLink2Description: Datasheet; ComponentLink2URL: http://www.analog.com/static/imported-files/data_sheets/ADG904_904R.pdf; ComponentLink3Description: Package Specification; ComponentLink3URL: http://www.analog.com/static/imported-files/packages/364515793657813558433715854054607941441RU20.pdf
footprint ADI-RU-20_N (TSOP, 20-Leads, Body 6.5x4.4mm, Pitch 0.65mm, IPC Medium Density)
footprint ADI-RU-20_L (TSOP, 20-Leads, Body 6.5x4.4mm, Pitch 0.65mm, IPC High Density)
footprint ADI-RU-20_M (TSOP, 20-Leads, Body 6.5x4.4mm, Pitch 0.65mm, IPC Low Density)
part A pins: 1 ~{EN} (in) "Active Low Digital Input. When high, the device is disabled and all switches are off. When low, Ax logic inputs determine On switches.", 4 RF1 "RF1 Port.", 7 RF3 "RF3 Port.", 10 RFC "Common RF Port for Switch.", 14 RF4 "RF4 Port.", 17 RF2 "RF2 Port.", 19 A1 (in) "Logic Control Input.", 20 A0 (in) "Logic Control Input."
part B pins: 2 VDD (power) "Power Supply Input. These parts can be operated from 1.65 V to 2.75 V. VDD should be decoupled to GND.", 3 GND (power) "Ground Reference Point for All Circuitry on the Part.", 5 GND (power) "Ground Reference Point for All Circuitry on the Part.", 6 GND (power) "Ground Reference Point for All Circuitry on the Part.", 8 GND (power) "Ground Reference Point for All Circuitry on the Part.", 9 GND (power) "Ground Reference Point for All Circuitry on the Part.", 11 GND (power) "Ground Reference Point for All Circuitry on the Part.", 12 GND (power) "Ground Reference Point for All Circuitry on the Part.", 13 GND (power) "Ground Reference Point for All Circuitry on the Part.", 15 GND (power) "Ground Reference Point for All Circuitry on the Part.", 16 GND (power) "Ground Reference Point for All Circuitry on the Part.", 18 GND (power) "Ground Reference Point for All Circuitry on the Part."

## ADG904BRU-R-500RL7
designator U?
RF Switch, Wideband 2.5 GHz, 37 dB Isolation at 1 GHz, CMOS 1.65 V to 2.75 V, 4:1 Mux/SP4T, RU-20, 500 Reel; Configuration: 4; Supply Voltage: Single (+1.65V to +2.75V); Insertion Loss (dB): 400mdB; Bandwidth: 2.5GHz; P-1dB (dBm): 16; Off Isolation: 60dB; Off Isolation Test Freq: 100M; DatasheetVersion: RevB; PackageVersion: 2000; PackageReference: RU-20; PackageDescription: 20-Lead Thin Shrink Small Outline Package [TSSOP]; # Sw Functions: 4; Code_JEDEC: MO-153AC; ComponentLink1Description: Manufacturer URL; ComponentLink1URL: www.analog.com; ComponentLink2Description: Datasheet; ComponentLink2URL: http://www.analog.com/static/imported-files/data_sheets/ADG904_904R.pdf; ComponentLink3Description: Package Specification; ComponentLink3URL: http://www.analog.com/static/imported-files/packages/364515793657813558433715854054607941441RU20.pdf
footprint ADI-RU-20_N (TSOP, 20-Leads, Body 6.5x4.4mm, Pitch 0.65mm, IPC Medium Density)
footprint ADI-RU-20_L (TSOP, 20-Leads, Body 6.5x4.4mm, Pitch 0.65mm, IPC High Density)
footprint ADI-RU-20_M (TSOP, 20-Leads, Body 6.5x4.4mm, Pitch 0.65mm, IPC Low Density)
part A pins: 1 ~{EN} (in) "Active Low Digital Input. When high, the device is disabled and all switches are off. When low, Ax logic inputs determine On switches.", 4 RF1 "RF1 Port.", 7 RF3 "RF3 Port.", 10 RFC "Common RF Port for Switch.", 14 RF4 "RF4 Port.", 17 RF2 "RF2 Port.", 19 A1 (in) "Logic Control Input.", 20 A0 (in) "Logic Control Input."
part B pins: 2 VDD (power) "Power Supply Input. These parts can be operated from 1.65 V to 2.75 V. VDD should be decoupled to GND.", 3 GND (power) "Ground Reference Point for All Circuitry on the Part.", 5 GND (power) "Ground Reference Point for All Circuitry on the Part.", 6 GND (power) "Ground Reference Point for All Circuitry on the Part.", 8 GND (power) "Ground Reference Point for All Circuitry on the Part.", 9 GND (power) "Ground Reference Point for All Circuitry on the Part.", 11 GND (power) "Ground Reference Point for All Circuitry on the Part.", 12 GND (power) "Ground Reference Point for All Circuitry on the Part.", 13 GND (power) "Ground Reference Point for All Circuitry on the Part.", 15 GND (power) "Ground Reference Point for All Circuitry on the Part.", 16 GND (power) "Ground Reference Point for All Circuitry on the Part.", 18 GND (power) "Ground Reference Point for All Circuitry on the Part."

## ADG904BRU-R-REEL
designator U?
RF Switch, Wideband 2.5 GHz, 37 dB Isolation at 1 GHz, CMOS 1.65 V to 2.75 V, 4:1 Mux/SP4T, RU-20, 2500 Reel; Configuration: 4; Supply Voltage: Single (+1.65V to +2.75V); Insertion Loss (dB): 400mdB; Bandwidth: 2.5GHz; P-1dB (dBm): 16; Off Isolation: 60dB; Off Isolation Test Freq: 100M; DatasheetVersion: RevB; PackageVersion: 2000; PackageReference: RU-20; PackageDescription: 20-Lead Thin Shrink Small Outline Package [TSSOP]; # Sw Functions: 4; Code_JEDEC: MO-153AC; ComponentLink1Description: Manufacturer URL; ComponentLink1URL: www.analog.com; ComponentLink2Description: Datasheet; ComponentLink2URL: http://www.analog.com/static/imported-files/data_sheets/ADG904_904R.pdf; ComponentLink3Description: Package Specification; ComponentLink3URL: http://www.analog.com/static/imported-files/packages/364515793657813558433715854054607941441RU20.pdf
footprint ADI-RU-20_N (TSOP, 20-Leads, Body 6.5x4.4mm, Pitch 0.65mm, IPC Medium Density)
footprint ADI-RU-20_L (TSOP, 20-Leads, Body 6.5x4.4mm, Pitch 0.65mm, IPC High Density)
footprint ADI-RU-20_M (TSOP, 20-Leads, Body 6.5x4.4mm, Pitch 0.65mm, IPC Low Density)
part A pins: 1 ~{EN} (in) "Active Low Digital Input. When high, the device is disabled and all switches are off. When low, Ax logic inputs determine On switches.", 4 RF1 "RF1 Port.", 7 RF3 "RF3 Port.", 10 RFC "Common RF Port for Switch.", 14 RF4 "RF4 Port.", 17 RF2 "RF2 Port.", 19 A1 (in) "Logic Control Input.", 20 A0 (in) "Logic Control Input."
part B pins: 2 VDD (power) "Power Supply Input. These parts can be operated from 1.65 V to 2.75 V. VDD should be decoupled to GND.", 3 GND (power) "Ground Reference Point for All Circuitry on the Part.", 5 GND (power) "Ground Reference Point for All Circuitry on the Part.", 6 GND (power) "Ground Reference Point for All Circuitry on the Part.", 8 GND (power) "Ground Reference Point for All Circuitry on the Part.", 9 GND (power) "Ground Reference Point for All Circuitry on the Part.", 11 GND (power) "Ground Reference Point for All Circuitry on the Part.", 12 GND (power) "Ground Reference Point for All Circuitry on the Part.", 13 GND (power) "Ground Reference Point for All Circuitry on the Part.", 15 GND (power) "Ground Reference Point for All Circuitry on the Part.", 16 GND (power) "Ground Reference Point for All Circuitry on the Part.", 18 GND (power) "Ground Reference Point for All Circuitry on the Part."

## ADG904BRU-R-REEL7
designator U?
RF Switch, Wideband 2.5 GHz, 37 dB Isolation at 1 GHz, CMOS 1.65 V to 2.75 V, 4:1 Mux/SP4T, RU-20, 1000 Reel; Configuration: 4; Supply Voltage: Single (+1.65V to +2.75V); Insertion Loss (dB): 400mdB; Bandwidth: 2.5GHz; P-1dB (dBm): 16; Off Isolation: 60dB; Off Isolation Test Freq: 100M; DatasheetVersion: RevB; PackageVersion: 2000; PackageReference: RU-20; PackageDescription: 20-Lead Thin Shrink Small Outline Package [TSSOP]; # Sw Functions: 4; Code_JEDEC: MO-153AC; ComponentLink1Description: Manufacturer URL; ComponentLink1URL: www.analog.com; ComponentLink2Description: Datasheet; ComponentLink2URL: http://www.analog.com/static/imported-files/data_sheets/ADG904_904R.pdf; ComponentLink3Description: Package Specification; ComponentLink3URL: http://www.analog.com/static/imported-files/packages/364515793657813558433715854054607941441RU20.pdf
footprint ADI-RU-20_N (TSOP, 20-Leads, Body 6.5x4.4mm, Pitch 0.65mm, IPC Medium Density)
footprint ADI-RU-20_L (TSOP, 20-Leads, Body 6.5x4.4mm, Pitch 0.65mm, IPC High Density)
footprint ADI-RU-20_M (TSOP, 20-Leads, Body 6.5x4.4mm, Pitch 0.65mm, IPC Low Density)
part A pins: 1 ~{EN} (in) "Active Low Digital Input. When high, the device is disabled and all switches are off. When low, Ax logic inputs determine On switches.", 4 RF1 "RF1 Port.", 7 RF3 "RF3 Port.", 10 RFC "Common RF Port for Switch.", 14 RF4 "RF4 Port.", 17 RF2 "RF2 Port.", 19 A1 (in) "Logic Control Input.", 20 A0 (in) "Logic Control Input."
part B pins: 2 VDD (power) "Power Supply Input. These parts can be operated from 1.65 V to 2.75 V. VDD should be decoupled to GND.", 3 GND (power) "Ground Reference Point for All Circuitry on the Part.", 5 GND (power) "Ground Reference Point for All Circuitry on the Part.", 6 GND (power) "Ground Reference Point for All Circuitry on the Part.", 8 GND (power) "Ground Reference Point for All Circuitry on the Part.", 9 GND (power) "Ground Reference Point for All Circuitry on the Part.", 11 GND (power) "Ground Reference Point for All Circuitry on the Part.", 12 GND (power) "Ground Reference Point for All Circuitry on the Part.", 13 GND (power) "Ground Reference Point for All Circuitry on the Part.", 15 GND (power) "Ground Reference Point for All Circuitry on the Part.", 16 GND (power) "Ground Reference Point for All Circuitry on the Part.", 18 GND (power) "Ground Reference Point for All Circuitry on the Part."

## ADG904BRU-REEL
designator U?
RF Switch, Wideband 2.5 GHz, 37 dB Isolation at 1 GHz, CMOS 1.65 V to 2.75 V, 4:1 Mux/SP4T, RU-20, 2500 Reel; Configuration: 4; Supply Voltage: Single (+1.65V to +2.75V); Insertion Loss (dB): 400mdB; Bandwidth: 2.5GHz; P-1dB (dBm): 16; Off Isolation: 60dB; Off Isolation Test Freq: 100M; DatasheetVersion: RevB; PackageVersion: 2000; PackageReference: RU-20; PackageDescription: 20-Lead Thin Shrink Small Outline Package [TSSOP]; # Sw Functions: 4; Code_JEDEC: MO-153AC; ComponentLink1Description: Manufacturer URL; ComponentLink1URL: www.analog.com; ComponentLink2Description: Datasheet; ComponentLink2URL: http://www.analog.com/static/imported-files/data_sheets/ADG904_904R.pdf; ComponentLink3Description: Package Specification; ComponentLink3URL: http://www.analog.com/static/imported-files/packages/364515793657813558433715854054607941441RU20.pdf
footprint ADI-RU-20_N (TSOP, 20-Leads, Body 6.5x4.4mm, Pitch 0.65mm, IPC Medium Density)
footprint ADI-RU-20_L (TSOP, 20-Leads, Body 6.5x4.4mm, Pitch 0.65mm, IPC High Density)
footprint ADI-RU-20_M (TSOP, 20-Leads, Body 6.5x4.4mm, Pitch 0.65mm, IPC Low Density)
part A pins: 1 ~{EN} (in) "Active Low Digital Input. When high, the device is disabled and all switches are off. When low, Ax logic inputs determine On switches.", 4 RF1 "RF1 Port.", 7 RF3 "RF3 Port.", 10 RFC "Common RF Port for Switch.", 14 RF4 "RF4 Port.", 17 RF2 "RF2 Port.", 19 A1 (in) "Logic Control Input.", 20 A0 (in) "Logic Control Input."
part B pins: 2 VDD (power) "Power Supply Input. These parts can be operated from 1.65 V to 2.75 V. VDD should be decoupled to GND.", 3 GND (power) "Ground Reference Point for All Circuitry on the Part.", 5 GND (power) "Ground Reference Point for All Circuitry on the Part.", 6 GND (power) "Ground Reference Point for All Circuitry on the Part.", 8 GND (power) "Ground Reference Point for All Circuitry on the Part.", 9 GND (power) "Ground Reference Point for All Circuitry on the Part.", 11 GND (power) "Ground Reference Point for All Circuitry on the Part.", 12 GND (power) "Ground Reference Point for All Circuitry on the Part.", 13 GND (power) "Ground Reference Point for All Circuitry on the Part.", 15 GND (power) "Ground Reference Point for All Circuitry on the Part.", 16 GND (power) "Ground Reference Point for All Circuitry on the Part.", 18 GND (power) "Ground Reference Point for All Circuitry on the Part."

## ADG904BRU-REEL7
designator U?
RF Switch, Wideband 2.5 GHz, 37 dB Isolation at 1 GHz, CMOS 1.65 V to 2.75 V, 4:1 Mux/SP4T, RU-20, 1000 Reel; Configuration: 4; Supply Voltage: Single (+1.65V to +2.75V); Insertion Loss (dB): 400mdB; Bandwidth: 2.5GHz; P-1dB (dBm): 16; Off Isolation: 60dB; Off Isolation Test Freq: 100M; DatasheetVersion: RevB; PackageVersion: 2000; PackageReference: RU-20; PackageDescription: 20-Lead Thin Shrink Small Outline Package [TSSOP]; # Sw Functions: 4; Code_JEDEC: MO-153AC; ComponentLink1Description: Manufacturer URL; ComponentLink1URL: www.analog.com; ComponentLink2Description: Datasheet; ComponentLink2URL: http://www.analog.com/static/imported-files/data_sheets/ADG904_904R.pdf; ComponentLink3Description: Package Specification; ComponentLink3URL: http://www.analog.com/static/imported-files/packages/364515793657813558433715854054607941441RU20.pdf
footprint ADI-RU-20_N (TSOP, 20-Leads, Body 6.5x4.4mm, Pitch 0.65mm, IPC Medium Density)
footprint ADI-RU-20_L (TSOP, 20-Leads, Body 6.5x4.4mm, Pitch 0.65mm, IPC High Density)
footprint ADI-RU-20_M (TSOP, 20-Leads, Body 6.5x4.4mm, Pitch 0.65mm, IPC Low Density)
part A pins: 1 ~{EN} (in) "Active Low Digital Input. When high, the device is disabled and all switches are off. When low, Ax logic inputs determine On switches.", 4 RF1 "RF1 Port.", 7 RF3 "RF3 Port.", 10 RFC "Common RF Port for Switch.", 14 RF4 "RF4 Port.", 17 RF2 "RF2 Port.", 19 A1 (in) "Logic Control Input.", 20 A0 (in) "Logic Control Input."
part B pins: 2 VDD (power) "Power Supply Input. These parts can be operated from 1.65 V to 2.75 V. VDD should be decoupled to GND.", 3 GND (power) "Ground Reference Point for All Circuitry on the Part.", 5 GND (power) "Ground Reference Point for All Circuitry on the Part.", 6 GND (power) "Ground Reference Point for All Circuitry on the Part.", 8 GND (power) "Ground Reference Point for All Circuitry on the Part.", 9 GND (power) "Ground Reference Point for All Circuitry on the Part.", 11 GND (power) "Ground Reference Point for All Circuitry on the Part.", 12 GND (power) "Ground Reference Point for All Circuitry on the Part.", 13 GND (power) "Ground Reference Point for All Circuitry on the Part.", 15 GND (power) "Ground Reference Point for All Circuitry on the Part.", 16 GND (power) "Ground Reference Point for All Circuitry on the Part.", 18 GND (power) "Ground Reference Point for All Circuitry on the Part."

## ADG904BRUZ
designator U?
RF Switch, Wideband 2.5 GHz, 37 dB Isolation at 1 GHz, CMOS 1.65 V to 2.75 V, 4:1 Mux/SP4T, RU-20, Pb-Free, 75 Tube; Configuration: 4; Supply Voltage: Single (+1.65V to +2.75V); Insertion Loss (dB): 400mdB; Bandwidth: 2.5GHz; P-1dB (dBm): 16; Off Isolation: 60dB; Off Isolation Test Freq: 100M; DatasheetVersion: RevB; PackageVersion: 2000; PackageReference: RU-20; PackageDescription: 20-Lead Thin Shrink Small Outline Package [TSSOP]; # Sw Functions: 4; Code_JEDEC: MO-153AC; ComponentLink1Description: Manufacturer URL; ComponentLink1URL: www.analog.com; ComponentLink2Description: Datasheet; ComponentLink2URL: http://www.analog.com/static/imported-files/data_sheets/ADG904_904R.pdf; ComponentLink3Description: Package Specification; ComponentLink3URL: http://www.analog.com/static/imported-files/packages/364515793657813558433715854054607941441RU20.pdf
footprint ADI-RU-20_N (TSOP, 20-Leads, Body 6.5x4.4mm, Pitch 0.65mm, IPC Medium Density)
footprint ADI-RU-20_L (TSOP, 20-Leads, Body 6.5x4.4mm, Pitch 0.65mm, IPC High Density)
footprint ADI-RU-20_M (TSOP, 20-Leads, Body 6.5x4.4mm, Pitch 0.65mm, IPC Low Density)
part A pins: 1 ~{EN} (in) "Active Low Digital Input. When high, the device is disabled and all switches are off. When low, Ax logic inputs determine On switches.", 4 RF1 "RF1 Port.", 7 RF3 "RF3 Port.", 10 RFC "Common RF Port for Switch.", 14 RF4 "RF4 Port.", 17 RF2 "RF2 Port.", 19 A1 (in) "Logic Control Input.", 20 A0 (in) "Logic Control Input."
part B pins: 2 VDD (power) "Power Supply Input. These parts can be operated from 1.65 V to 2.75 V. VDD should be decoupled to GND.", 3 GND (power) "Ground Reference Point for All Circuitry on the Part.", 5 GND (power) "Ground Reference Point for All Circuitry on the Part.", 6 GND (power) "Ground Reference Point for All Circuitry on the Part.", 8 GND (power) "Ground Reference Point for All Circuitry on the Part.", 9 GND (power) "Ground Reference Point for All Circuitry on the Part.", 11 GND (power) "Ground Reference Point for All Circuitry on the Part.", 12 GND (power) "Ground Reference Point for All Circuitry on the Part.", 13 GND (power) "Ground Reference Point for All Circuitry on the Part.", 15 GND (power) "Ground Reference Point for All Circuitry on the Part.", 16 GND (power) "Ground Reference Point for All Circuitry on the Part.", 18 GND (power) "Ground Reference Point for All Circuitry on the Part."